# Altium footprint library AUVic_PCB_Library_Regulators.PcbLib: 153 footprints (part 8 of 10)
Each footprint in its own frame and in the unit in brackets; x right, y up, seen from the top. Pads: shape width x height; smd on the part's side, far side on the other; paste and mask are expansions set on the pad; w line width, h text height; cw(c..) or ccw(c..) is an arc to the next point about the centre after c.
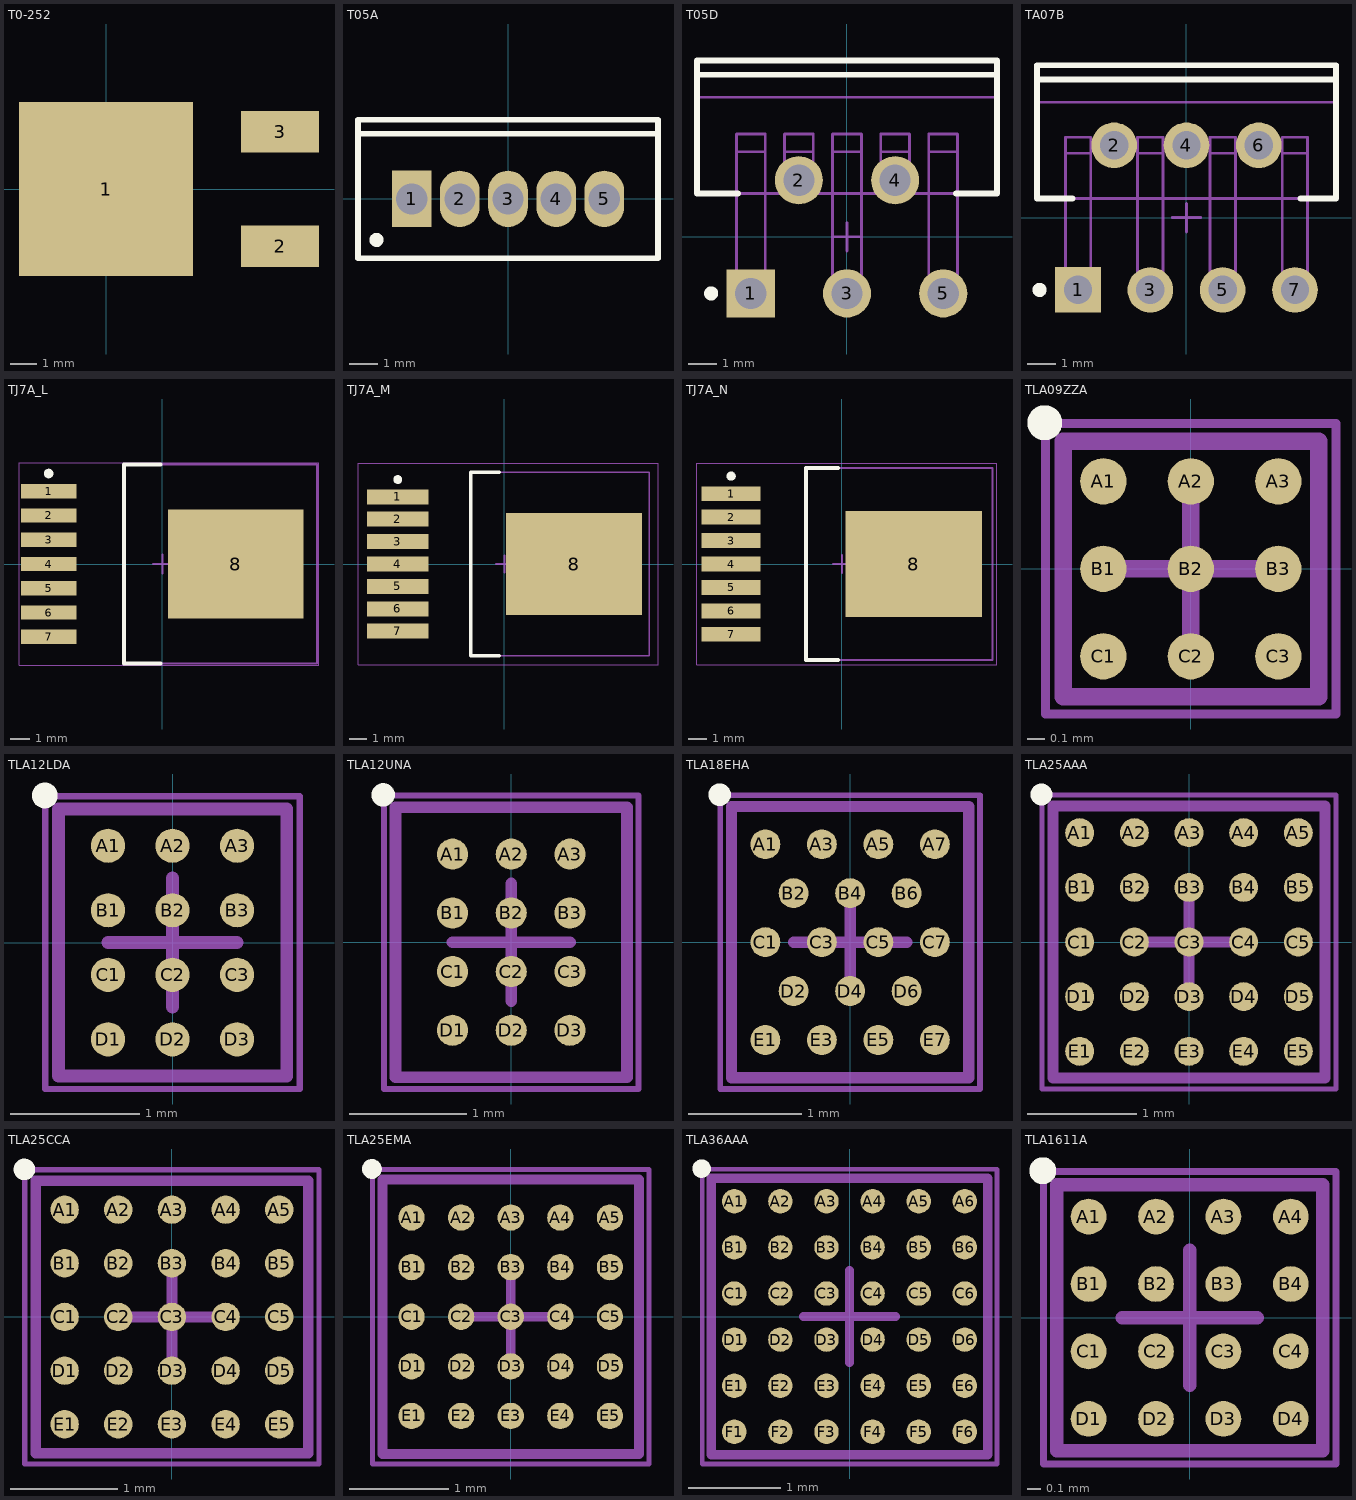
[diagram p7: the footprints below, top view; thin cyan lines are the x and y axes]

## T0-252 [mm]
pads (3):
  rect 6.7x6.7 smd: 1(0,0)
  rect 3x1.6 smd: 2(6.7,-2.2) 3(6.7,2.2)
3D body "User Library-DPAK_TO-252AA.step": height 2.37, standoff -0.03, extent -2.702,-3.467 7.398,3.267

## T05A [mm] "TO, Thru-Hole, Vertical, Heatsink Mounted; 5 In-Line Leads; Pitch 1.70 mm"
height 19.6
pads (5):
  rect 1.4x2 hole 1.1: 1(-3.4,0)
  oval 1.4x2 hole 1.1: 2(-1.7,0) 3(0,0) 4(1.7,0) 5(3.4,0)
Top Overlay:
  circle w0.25: c-4.65,-1.45 r0.125
  lines w0.2: -5.3,2.3 5.3,2.3 ; -5.3,-2.1 5.3,-2.1 5.3,2.8 -5.3,2.8 -5.3,-2.1
Body Top:
  lines w0.1: -5.3,2.3 5.3,2.3 ; -5.3,-2.1 -5.3,2.8 5.3,2.8 5.3,-2.1 -5.3,-2.1 ; -3.91,-0.28 -3.91,0.28 -2.89,0.28 -2.89,-0.28 -3.91,-0.28 ; -2.21,-0.28 -2.21,0.28 -1.19,0.28 -1.19,-0.28 -2.21,-0.28 ; -0.51,-0.28 -0.51,0.28 0.51,0.28 0.51,-0.28 -0.51,-0.28 ; 1.19,-0.28 1.19,0.28 2.21,0.28 2.21,-0.28 1.19,-0.28 ; 2.89,-0.28 2.89,0.28 3.91,0.28 3.91,-0.28 2.89,-0.28
Courtyard Top:
  lines w0.1: -0.5,0 0.5,0 ; 0,-0.5 0,0.5
3D body: height 13, standoff 4.1, extent -5.35,-2.15 5.35,2.85
3D body: height 19.6, standoff 13, extent -5.299,2.301 5.299,2.799
3D body: height 4.1, standoff 0, extent -3.909,-0.279 -2.891,0.279
3D body: height 4.1, standoff 0, extent -2.209,-0.279 -1.191,0.279
3D body: height 4.1, standoff 0, extent 1.191,-0.279 2.209,0.279
3D body: height 4.1, standoff 0, extent 2.891,-0.279 3.909,0.279
3D body: height 4.1, standoff 0, extent -0.509,-0.279 0.509,0.279

## T05D [mm] "TO, Thru-Hole, Vertical, Heatsink Mounted; 5 Bent Staggered Leads; Pitch 1.7 mm"
height 21.1
pads (5):
  rect 1.7x1.7 hole 1.1: 1(-3.4,-2)
  round 1.7 hole 1.1: 2(-1.7,2) 3(0,-2) 4(1.7,2) 5(3.4,-2)
Top Overlay:
  circle w0.25: c-4.8,-2 r0.125
  lines w0.2: -5.3,5.73 5.3,5.73 ; -3.854,1.53 -5.3,1.53 -5.3,6.23 5.3,6.23 5.3,1.53 3.854,1.53
Body Top:
  lines w0.1: -5.3,4.93 5.3,4.93 ; -3.91,-1.685 -3.91,3.005 ; -3.91,-1.685 -2.89,-1.685 ; -3.91,-1.685 -3.91,-2.315 -2.89,-2.315 -2.89,-1.685 ; -3.91,3.005 -3.91,3.635 -2.89,3.635 -2.89,3.005 ; -3.91,3.005 -2.89,3.005 ; -2.89,-1.685 -2.89,3.005 ; -2.21,2.315 -2.21,3.005 ; -2.21,2.315 -1.19,2.315 ; -2.21,2.315 -2.21,1.685 -1.19,1.685 -1.19,2.315 ; -2.21,3.005 -2.21,3.635 -1.19,3.635 -1.19,3.005 ; -2.21,3.005 -1.19,3.005 ; -1.19,2.315 -1.19,3.005 ; -0.51,-1.685 -0.51,-2.315 0.51,-2.315 0.51,-1.685 ; -0.51,-1.685 0.51,-1.685 ; -0.51,-1.685 -0.51,3.005 ; -0.51,3.005 0.51,3.005 ; -0.51,3.005 -0.51,3.635 0.51,3.635 0.51,3.005 ; 0.51,-1.685 0.51,3.005 ; 1.19,2.315 1.19,3.005 ; 1.19,2.315 2.21,2.315 ; 1.19,2.315 1.19,1.685 2.21,1.685 2.21,2.315 ; 1.19,3.005 1.19,3.635 2.21,3.635 2.21,3.005 ; 1.19,3.005 2.21,3.005 ; 2.21,2.315 2.21,3.005 ; 2.89,-1.685 3.91,-1.685 ; 2.89,-1.685 2.89,-2.315 3.91,-2.315 3.91,-1.685 ; 2.89,-1.685 2.89,3.005 ; 2.89,3.005 2.89,3.635 3.91,3.635 3.91,3.005 ; 2.89,3.005 3.91,3.005 ; 3.91,-1.685 3.91,3.005 ; -5.3,1.53 5.3,1.53 5.3,6.23 -5.3,6.23 -5.3,1.53
Courtyard Top:
  lines w0.1: -0.5,0 0.5,0 ; 0,-0.5 0,0.5
3D body: height 21.1, standoff 14.5, extent -5.299,4.931 5.299,6.229
3D body: height 14.5, standoff 5.6, extent -5.35,1.48 5.35,6.28
3D body: height 5.6, standoff 1.95, extent -2.209,3.006 -1.191,3.634
3D body: height 5.6, standoff 1.95, extent -0.509,3.006 0.509,3.634
3D body: height 5.6, standoff 1.95, extent 1.191,3.006 2.209,3.634
3D body: height 5.6, standoff 1.95, extent 2.891,3.006 3.909,3.634
3D body: height 0.93, standoff 0, extent 1.191,1.686 2.209,2.314
3D body: height 0.93, standoff 0, extent -2.209,1.686 -1.191,2.314
3D body: height 2.26, standoff 0.63, extent -2.209,2.316 -1.191,3.004
3D body: height 2.26, standoff 0.63, extent 1.191,2.316 2.209,3.004
3D body: height 2.26, standoff 1.42, extent 2.891,1.531 3.909,3.004
3D body: height 2.26, standoff 1.42, extent -3.909,1.531 -2.891,3.004
3D body: height 2.26, standoff 1.42, extent -0.509,1.531 0.509,3.004
3D body: height 0.93, standoff 0, extent -3.909,-2.314 -2.891,-1.686
3D body: height 0.93, standoff 0, extent -0.509,-2.314 0.509,-1.686
3D body: height 0.93, standoff 0, extent 2.891,-2.314 3.909,-1.686
3D body: height 1.72, standoff 0.63, extent -3.909,-1.684 -2.891,1.529
3D body: height 1.72, standoff 0.63, extent -0.509,-1.684 0.509,1.529
3D body: height 1.72, standoff 0.63, extent 2.891,-1.684 3.909,1.529
3D body: height 5.6, standoff 1.95, extent -3.909,3.006 -2.891,3.634

## TA07B [mm] "TO, Thru-Hole, Vertical, Heatsink Mounted; 7 Bent Staggered Leads; Pitch 1.27 mm"
height 20.9
pads (7):
  rect 1.6x1.6 hole 1: 1(-3.81,-2.54)
  round 1.6 hole 1: 2(-2.54,2.54) 3(-1.27,-2.54) 4(0,2.54) 5(1.27,-2.54) 6(2.54,2.54) 7(3.81,-2.54)
Top Overlay:
  circle w0.25: c-5.16,-2.54 r0.125
  lines w0.2: -5.25,4.85 5.25,4.85 ; -4,0.67 -5.25,0.67 -5.25,5.35 5.25,5.35 5.25,0.67 4,0.67
Body Top:
  lines w0.1: -5.25,4.05 5.25,4.05 ; -4.255,-2.26 -4.255,-2.82 -3.365,-2.82 -3.365,-2.26 ; -4.255,-2.26 -3.365,-2.26 ; -4.255,-2.26 -4.255,2.26 ; -4.255,2.26 -3.365,2.26 ; -4.255,2.26 -4.255,2.82 -3.365,2.82 -3.365,2.26 ; -3.365,-2.26 -3.365,2.26 ; -1.715,-2.26 -1.715,-2.82 -0.825,-2.82 -0.825,-2.26 ; -1.715,-2.26 -0.825,-2.26 ; -1.715,-2.26 -1.715,2.26 ; -1.715,2.26 -0.825,2.26 ; -1.715,2.26 -1.715,2.82 -0.825,2.82 -0.825,2.26 ; -0.825,-2.26 -0.825,2.26 ; 0.825,-2.26 0.825,-2.82 1.715,-2.82 1.715,-2.26 ; 0.825,-2.26 1.715,-2.26 ; 0.825,-2.26 0.825,2.26 ; 0.825,2.26 1.715,2.26 ; 0.825,2.26 0.825,2.82 1.715,2.82 1.715,2.26 ; 1.715,-2.26 1.715,2.26 ; 3.365,-2.26 3.365,2.26 ; 3.365,-2.26 3.365,-2.82 4.255,-2.82 4.255,-2.26 ; 3.365,-2.26 4.255,-2.26 ; 3.365,2.26 4.255,2.26 ; 3.365,2.26 3.365,2.82 4.255,2.82 4.255,2.26 ; 4.255,-2.26 4.255,2.26 ; -5.25,0.67 5.25,0.67 5.25,5.35 -5.25,5.35 -5.25,0.67 ; -2.985,2.26 -2.095,2.26 -2.095,2.82 -2.985,2.82 -2.985,2.26 ; -0.445,2.26 0.445,2.26 0.445,2.82 -0.445,2.82 -0.445,2.26 ; 2.095,2.26 2.985,2.26 2.985,2.82 2.095,2.82 2.095,2.26
Courtyard Top:
  lines w0.1: -0.5,0 0.5,0 ; 0,-0.5 0,0.5
3D body: height 20.9, standoff 14.35, extent -5.249,4.051 5.249,5.349
3D body: height 5.4, standoff 3.3, extent 0.826,2.261 1.714,2.819
3D body: height 5.4, standoff 3.3, extent 3.366,2.261 4.254,2.819
3D body: height 5.4, standoff 0, extent 2.096,2.261 2.984,2.819
3D body: height 5.4, standoff 0, extent -0.444,2.261 0.444,2.819
3D body: height 5.4, standoff 3.3, extent -4.254,2.261 -3.366,2.819
3D body: height 5.4, standoff 0, extent -2.984,2.261 -2.096,2.819
3D body: height 5.4, standoff 3.3, extent -1.714,2.261 -0.826,2.819
3D body: height 3.69, standoff 2.15, extent -4.254,0.671 -3.366,2.259
3D body: height 3.69, standoff 2.15, extent -1.714,0.671 -0.826,2.259
3D body: height 3.69, standoff 2.15, extent 0.826,0.671 1.714,2.259
3D body: height 3.69, standoff 2.15, extent 3.366,0.671 4.254,2.259
3D body: height 2.45, standoff 0.45, extent 3.366,-2.259 4.254,0.669
3D body: height 2.45, standoff 0.45, extent 0.826,-2.259 1.714,0.669
3D body: height 2.45, standoff 0.45, extent -4.254,-2.259 -3.366,0.669
3D body: height 2.45, standoff 0.45, extent -1.714,-2.259 -0.826,0.669
3D body: height 0.7, standoff 0, extent 0.826,-2.819 1.714,-2.261
3D body: height 0.7, standoff 0, extent -4.254,-2.819 -3.366,-2.261
3D body: height 0.7, standoff 0, extent -1.714,-2.819 -0.826,-2.261
3D body: height 0.7, standoff 0, extent 3.366,-2.819 4.254,-2.261
3D body: height 14.35, standoff 5.4, extent -5.3,0.62 5.3,5.4

## TJ7A_L [mm] "D2-PAK, 8-Leads, Body 9.9x10.2mm, Pitch 1.27mm, Lead Span 14mm, IPC High Density"
height 2.1
pads (8):
  rect 2.9x0.75 smd: 1(-5.95,3.81) 2(-5.95,2.54) 3(-5.95,1.27) 4(-5.95,0) 5(-5.95,-1.27) 6(-5.95,-2.54) 7(-5.95,-3.81)
  rect 7.1x5.7 smd: 8(3.85,0)
Top Overlay:
  circle w0.25: c-5.95,4.735 r0.125
  lines w0.2: -0.1,-5.2 -2,-5.2 -2,5.2 -0.1,5.2
Body Top:
  lines w0.1: -2,-5.2 8.1,-5.2 8.1,5.2 -2,5.2 -2,-5.2
Courtyard Top:
  lines w0.05: -7.5,-5.3 8.2,-5.3 8.2,5.3 -7.5,5.3 -7.5,-5.3
  lines w0.1: -0.5,0 0.5,0 ; 0,-0.5 0,0.5
3D body: height 2.1, standoff 0, extent -2,-5.2 8.1,5.2

## TJ7A_M [mm] "D2-PAK, 8-Leads, Body 9.9x10.2mm, Pitch 1.27mm, Lead Span 14mm, IPC Low Density"
height 2.1
pads (8):
  rect 3.5x0.85 smd: 1(-6.05,3.81) 2(-6.05,2.54) 3(-6.05,1.27) 4(-6.05,0) 5(-6.05,-1.27) 6(-6.05,-2.54) 7(-6.05,-3.81)
  rect 7.7x5.8 smd: 8(3.95,0)
Top Overlay:
  circle w0.25: c-6.05,4.785 r0.125
  lines w0.2: -0.3,-5.2 -1.9,-5.2 -1.9,5.2 -0.3,5.2
Body Top:
  lines w0.1: -1.9,-5.2 8.2,-5.2 8.2,5.2 -1.9,5.2 -1.9,-5.2
Courtyard Top:
  lines w0.05: -8.3,-5.7 8.7,-5.7 8.7,5.7 -8.3,5.7 -8.3,-5.7
  lines w0.1: -0.5,0 0.5,0 ; 0,-0.5 0,0.5
3D body: height 2.1, standoff 0, extent -1.9,-5.2 8.2,5.2

## TJ7A_N [mm] "D2-PAK, 8-Leads, Body 9.9x10.2mm, Pitch 1.27mm, Lead Span 14mm, IPC Medium Density"
height 2.1
pads (8):
  rect 3.2x0.8 smd: 1(-6,3.81) 2(-6,2.54) 3(-6,1.27) 4(-6,0) 5(-6,-1.27) 6(-6,-2.54) 7(-6,-3.81)
  rect 7.4x5.75 smd: 8(3.9,0)
Top Overlay:
  circle w0.25: c-6,4.76 r0.125
  lines w0.2: -0.2,-5.2 -1.95,-5.2 -1.95,5.2 -0.2,5.2
Body Top:
  lines w0.1: -1.95,-5.2 8.15,-5.2 8.15,5.2 -1.95,5.2 -1.95,-5.2
Courtyard Top:
  lines w0.05: -7.85,-5.45 8.4,-5.45 8.4,5.45 -7.85,5.45 -7.85,-5.45
  lines w0.1: -0.5,0 0.5,0 ; 0,-0.5 0,0.5
3D body: height 2.1, standoff 0, extent -1.95,-5.2 8.15,5.2

## TLA09ZZA [mm] "Micro SMD, 9-Leads, Body 1.47x1.47mm, Pitch 0.5mm, NSC Recommended"
height 0.68
pads (9):
  round 0.265 smd paste-0.132 mask+0.05: A1(-0.5,0.5) A2(0,0.5) A3(0.5,0.5) B1(-0.5,0) B2(0,0) B3(0.5,0) C1(-0.5,-0.5) C2(0,-0.5) C3(0.5,-0.5)
Top Overlay:
  circle w0.1: c-0.835,0.835 r0.05
Top Paste:
  circle w0.05: c0.425,-0.425 r0.025
  circle w0.05: c0.575,-0.575 r0.025
  circle w0.05: c0.575,-0.425 r0.025
  circle w0.05: c0.425,-0.575 r0.025
  circle w0.05: c-0.075,-0.425 r0.025
  circle w0.05: c0.075,-0.575 r0.025
  circle w0.05: c0.075,-0.425 r0.025
  circle w0.05: c-0.075,-0.575 r0.025
  circle w0.05: c-0.575,-0.425 r0.025
  circle w0.05: c-0.425,-0.575 r0.025
  circle w0.05: c-0.425,-0.425 r0.025
  circle w0.05: c-0.575,-0.575 r0.025
  circle w0.05: c0.425,0.075 r0.025
  circle w0.05: c0.575,-0.075 r0.025
  circle w0.05: c0.575,0.075 r0.025
  circle w0.05: c0.425,-0.075 r0.025
  circle w0.05: c-0.075,0.075 r0.025
  circle w0.05: c0.075,-0.075 r0.025
  circle w0.05: c0.075,0.075 r0.025
  circle w0.05: c-0.075,-0.075 r0.025
  circle w0.05: c-0.575,0.075 r0.025
  circle w0.05: c-0.425,-0.075 r0.025
  circle w0.05: c-0.425,0.075 r0.025
  circle w0.05: c-0.575,-0.075 r0.025
  circle w0.05: c0.425,0.575 r0.025
  circle w0.05: c0.575,0.425 r0.025
  circle w0.05: c0.575,0.575 r0.025
  circle w0.05: c0.425,0.425 r0.025
  circle w0.05: c-0.075,0.575 r0.025
  circle w0.05: c0.075,0.425 r0.025
  circle w0.05: c0.075,0.575 r0.025
  circle w0.05: c-0.075,0.425 r0.025
  circle w0.05: c-0.575,0.575 r0.025
  circle w0.05: c-0.425,0.425 r0.025
  circle w0.05: c-0.425,0.575 r0.025
  circle w0.05: c-0.575,0.425 r0.025
  region: 0.575,-0.575 0.425,-0.575 0.425,-0.625 0.575,-0.625
  region: 0.575,-0.425 0.575,-0.575 0.625,-0.575 0.625,-0.425
  rectangle: 0.425,-0.425 0.575,-0.375
  region: 0.425,-0.575 0.425,-0.425 0.375,-0.425 0.375,-0.575
  region: 0.425,-0.425 0.425,-0.575 0.575,-0.575 0.575,-0.425
  region: 0.075,-0.575 -0.075,-0.575 -0.075,-0.625 0.075,-0.625
  region: 0.075,-0.425 0.075,-0.575 0.125,-0.575 0.125,-0.425
  rectangle: -0.075,-0.425 0.075,-0.375
  region: -0.075,-0.575 -0.075,-0.425 -0.125,-0.425 -0.125,-0.575
  region: -0.075,-0.425 -0.075,-0.575 0.075,-0.575 0.075,-0.425
  region: -0.425,-0.575 -0.575,-0.575 -0.575,-0.625 -0.425,-0.625
  region: -0.425,-0.425 -0.425,-0.575 -0.375,-0.575 -0.375,-0.425
  rectangle: -0.575,-0.425 -0.425,-0.375
  region: -0.575,-0.575 -0.575,-0.425 -0.625,-0.425 -0.625,-0.575
  region: -0.575,-0.425 -0.575,-0.575 -0.425,-0.575 -0.425,-0.425
  region: 0.575,-0.075 0.425,-0.075 0.425,-0.125 0.575,-0.125
  region: 0.575,0.075 0.575,-0.075 0.625,-0.075 0.625,0.075
  rectangle: 0.425,0.075 0.575,0.125
  region: 0.425,-0.075 0.425,0.075 0.375,0.075 0.375,-0.075
  region: 0.425,0.075 0.425,-0.075 0.575,-0.075 0.575,0.075
  region: 0.075,-0.075 -0.075,-0.075 -0.075,-0.125 0.075,-0.125
  region: 0.075,0.075 0.075,-0.075 0.125,-0.075 0.125,0.075
  rectangle: -0.075,0.075 0.075,0.125
  region: -0.075,-0.075 -0.075,0.075 -0.125,0.075 -0.125,-0.075
  region: -0.075,0.075 -0.075,-0.075 0.075,-0.075 0.075,0.075
  region: -0.425,-0.075 -0.575,-0.075 -0.575,-0.125 -0.425,-0.125
  region: -0.425,0.075 -0.425,-0.075 -0.375,-0.075 -0.375,0.075
  rectangle: -0.575,0.075 -0.425,0.125
  region: -0.575,-0.075 -0.575,0.075 -0.625,0.075 -0.625,-0.075
  region: -0.575,0.075 -0.575,-0.075 -0.425,-0.075 -0.425,0.075
  region: 0.575,0.425 0.425,0.425 0.425,0.375 0.575,0.375
  region: 0.575,0.575 0.575,0.425 0.625,0.425 0.625,0.575
  rectangle: 0.425,0.575 0.575,0.625
  region: 0.425,0.425 0.425,0.575 0.375,0.575 0.375,0.425
  region: 0.425,0.575 0.425,0.425 0.575,0.425 0.575,0.575
  region: 0.075,0.425 -0.075,0.425 -0.075,0.375 0.075,0.375
  region: 0.075,0.575 0.075,0.425 0.125,0.425 0.125,0.575
  rectangle: -0.075,0.575 0.075,0.625
  region: -0.075,0.425 -0.075,0.575 -0.125,0.575 -0.125,0.425
  region: -0.075,0.575 -0.075,0.425 0.075,0.425 0.075,0.575
  region: -0.425,0.425 -0.575,0.425 -0.575,0.375 -0.425,0.375
  region: -0.425,0.575 -0.425,0.425 -0.375,0.425 -0.375,0.575
  rectangle: -0.575,0.575 -0.425,0.625
  region: -0.575,0.425 -0.575,0.575 -0.625,0.575 -0.625,0.425
  region: -0.575,0.575 -0.575,0.425 -0.425,0.425 -0.425,0.575
Body Top:
  lines w0.1: -0.73,-0.73 0.73,-0.73 0.73,0.73 -0.73,0.73 -0.73,-0.73
Courtyard Top:
  lines w0.05: -0.83,-0.83 0.83,-0.83 0.83,0.83 -0.83,0.83 -0.83,-0.83
  lines w0.1: -0.5,0 0.5,0 ; 0,-0.5 0,0.5
3D body: height 0.68, standoff 0, extent -0.73,-0.73 0.73,0.73

## TLA12LDA [mm] "Micro SMD, 12-Leads, Body 2.07x1.77mm, Pitch 0.5mm, NSC Recommended"
height 0.68
pads (12):
  round 0.265 smd paste-0.132 mask+0.05: A1(-0.5,0.75) A2(0,0.75) A3(0.5,0.75) B1(-0.5,0.25) B2(0,0.25) B3(0.5,0.25) C1(-0.5,-0.25) C2(0,-0.25) C3(0.5,-0.25) D1(-0.5,-0.75) D2(0,-0.75) D3(0.5,-0.75)
Top Overlay:
  circle w0.1: c-0.99,1.14 r0.05
Top Paste:
  circle w0.05: c0.425,-0.675 r0.025
  circle w0.05: c0.575,-0.825 r0.025
  circle w0.05: c0.575,-0.675 r0.025
  circle w0.05: c0.425,-0.825 r0.025
  circle w0.05: c-0.075,-0.675 r0.025
  circle w0.05: c0.075,-0.825 r0.025
  circle w0.05: c0.075,-0.675 r0.025
  circle w0.05: c-0.075,-0.825 r0.025
  circle w0.05: c-0.575,-0.675 r0.025
  circle w0.05: c-0.425,-0.825 r0.025
  circle w0.05: c-0.425,-0.675 r0.025
  circle w0.05: c-0.575,-0.825 r0.025
  circle w0.05: c0.425,-0.175 r0.025
  circle w0.05: c0.575,-0.325 r0.025
  circle w0.05: c0.575,-0.175 r0.025
  circle w0.05: c0.425,-0.325 r0.025
  circle w0.05: c-0.075,-0.175 r0.025
  circle w0.05: c0.075,-0.325 r0.025
  circle w0.05: c0.075,-0.175 r0.025
  circle w0.05: c-0.075,-0.325 r0.025
  circle w0.05: c-0.575,-0.175 r0.025
  circle w0.05: c-0.425,-0.325 r0.025
  circle w0.05: c-0.425,-0.175 r0.025
  circle w0.05: c-0.575,-0.325 r0.025
  circle w0.05: c0.425,0.325 r0.025
  circle w0.05: c0.575,0.175 r0.025
  circle w0.05: c0.575,0.325 r0.025
  circle w0.05: c0.425,0.175 r0.025
  circle w0.05: c-0.075,0.325 r0.025
  circle w0.05: c0.075,0.175 r0.025
  circle w0.05: c0.075,0.325 r0.025
  circle w0.05: c-0.075,0.175 r0.025
  circle w0.05: c-0.575,0.325 r0.025
  circle w0.05: c-0.425,0.175 r0.025
  circle w0.05: c-0.425,0.325 r0.025
  circle w0.05: c-0.575,0.175 r0.025
  circle w0.05: c0.425,0.825 r0.025
  circle w0.05: c0.575,0.675 r0.025
  circle w0.05: c0.575,0.825 r0.025
  circle w0.05: c0.425,0.675 r0.025
  circle w0.05: c-0.075,0.825 r0.025
  circle w0.05: c0.075,0.675 r0.025
  circle w0.05: c0.075,0.825 r0.025
  circle w0.05: c-0.075,0.675 r0.025
  circle w0.05: c-0.575,0.825 r0.025
  circle w0.05: c-0.425,0.675 r0.025
  circle w0.05: c-0.425,0.825 r0.025
  circle w0.05: c-0.575,0.675 r0.025
  region: 0.575,-0.825 0.425,-0.825 0.425,-0.875 0.575,-0.875
  region: 0.575,-0.675 0.575,-0.825 0.625,-0.825 0.625,-0.675
  rectangle: 0.425,-0.675 0.575,-0.625
  region: 0.425,-0.825 0.425,-0.675 0.375,-0.675 0.375,-0.825
  region: 0.425,-0.675 0.425,-0.825 0.575,-0.825 0.575,-0.675
  region: 0.075,-0.825 -0.075,-0.825 -0.075,-0.875 0.075,-0.875
  region: 0.075,-0.675 0.075,-0.825 0.125,-0.825 0.125,-0.675
  rectangle: -0.075,-0.675 0.075,-0.625
  region: -0.075,-0.825 -0.075,-0.675 -0.125,-0.675 -0.125,-0.825
  region: -0.075,-0.675 -0.075,-0.825 0.075,-0.825 0.075,-0.675
  region: -0.425,-0.825 -0.575,-0.825 -0.575,-0.875 -0.425,-0.875
  region: -0.425,-0.675 -0.425,-0.825 -0.375,-0.825 -0.375,-0.675
  rectangle: -0.575,-0.675 -0.425,-0.625
  region: -0.575,-0.825 -0.575,-0.675 -0.625,-0.675 -0.625,-0.825
  region: -0.575,-0.675 -0.575,-0.825 -0.425,-0.825 -0.425,-0.675
  region: 0.575,-0.325 0.425,-0.325 0.425,-0.375 0.575,-0.375
  region: 0.575,-0.175 0.575,-0.325 0.625,-0.325 0.625,-0.175
  rectangle: 0.425,-0.175 0.575,-0.125
  region: 0.425,-0.325 0.425,-0.175 0.375,-0.175 0.375,-0.325
  region: 0.425,-0.175 0.425,-0.325 0.575,-0.325 0.575,-0.175
  region: 0.075,-0.325 -0.075,-0.325 -0.075,-0.375 0.075,-0.375
  region: 0.075,-0.175 0.075,-0.325 0.125,-0.325 0.125,-0.175
  rectangle: -0.075,-0.175 0.075,-0.125
  region: -0.075,-0.325 -0.075,-0.175 -0.125,-0.175 -0.125,-0.325
  region: -0.075,-0.175 -0.075,-0.325 0.075,-0.325 0.075,-0.175
  region: -0.425,-0.325 -0.575,-0.325 -0.575,-0.375 -0.425,-0.375
  region: -0.425,-0.175 -0.425,-0.325 -0.375,-0.325 -0.375,-0.175
  rectangle: -0.575,-0.175 -0.425,-0.125
  region: -0.575,-0.325 -0.575,-0.175 -0.625,-0.175 -0.625,-0.325
  region: -0.575,-0.175 -0.575,-0.325 -0.425,-0.325 -0.425,-0.175
  region: 0.575,0.175 0.425,0.175 0.425,0.125 0.575,0.125
  region: 0.575,0.325 0.575,0.175 0.625,0.175 0.625,0.325
  rectangle: 0.425,0.325 0.575,0.375
  region: 0.425,0.175 0.425,0.325 0.375,0.325 0.375,0.175
  region: 0.425,0.325 0.425,0.175 0.575,0.175 0.575,0.325
  region: 0.075,0.175 -0.075,0.175 -0.075,0.125 0.075,0.125
  region: 0.075,0.325 0.075,0.175 0.125,0.175 0.125,0.325
  rectangle: -0.075,0.325 0.075,0.375
  region: -0.075,0.175 -0.075,0.325 -0.125,0.325 -0.125,0.175
  region: -0.075,0.325 -0.075,0.175 0.075,0.175 0.075,0.325
  region: -0.425,0.175 -0.575,0.175 -0.575,0.125 -0.425,0.125
  region: -0.425,0.325 -0.425,0.175 -0.375,0.175 -0.375,0.325
  rectangle: -0.575,0.325 -0.425,0.375
  region: -0.575,0.175 -0.575,0.325 -0.625,0.325 -0.625,0.175
  region: -0.575,0.325 -0.575,0.175 -0.425,0.175 -0.425,0.325
  region: 0.575,0.675 0.425,0.675 0.425,0.625 0.575,0.625
  region: 0.575,0.825 0.575,0.675 0.625,0.675 0.625,0.825
  rectangle: 0.425,0.825 0.575,0.875
  region: 0.425,0.675 0.425,0.825 0.375,0.825 0.375,0.675
  region: 0.425,0.825 0.425,0.675 0.575,0.675 0.575,0.825
  region: 0.075,0.675 -0.075,0.675 -0.075,0.625 0.075,0.625
  region: 0.075,0.825 0.075,0.675 0.125,0.675 0.125,0.825
  rectangle: -0.075,0.825 0.075,0.875
  region: -0.075,0.675 -0.075,0.825 -0.125,0.825 -0.125,0.675
  region: -0.075,0.825 -0.075,0.675 0.075,0.675 0.075,0.825
  region: -0.425,0.675 -0.575,0.675 -0.575,0.625 -0.425,0.625
  region: -0.425,0.825 -0.425,0.675 -0.375,0.675 -0.375,0.825
  rectangle: -0.575,0.825 -0.425,0.875
  region: -0.575,0.675 -0.575,0.825 -0.625,0.825 -0.625,0.675
  region: -0.575,0.825 -0.575,0.675 -0.425,0.675 -0.425,0.825
Body Top:
  lines w0.1: -0.885,-1.035 0.885,-1.035 0.885,1.035 -0.885,1.035 -0.885,-1.035
Courtyard Top:
  lines w0.05: -0.985,-1.135 0.985,-1.135 0.985,1.135 -0.985,1.135 -0.985,-1.135
  lines w0.1: -0.5,0 0.5,0 ; 0,-0.5 0,0.5
3D body: height 0.68, standoff 0, extent -0.885,-1.035 0.885,1.035

## TLA12UNA [mm] "Micro SMD, 12-Leads, Body 2.3x1.97mm, Pitch 0.5mm, NSC Recommended"
height 0.68
pads (12):
  round 0.265 smd paste-0.132 mask+0.05: A1(-0.5,0.75) A2(0,0.75) A3(0.5,0.75) B1(-0.5,0.25) B2(0,0.25) B3(0.5,0.25) C1(-0.5,-0.25) C2(0,-0.25) C3(0.5,-0.25) D1(-0.5,-0.75) D2(0,-0.75) D3(0.5,-0.75)
Top Overlay:
  circle w0.1: c-1.09,1.255 r0.05
Top Paste:
  circle w0.05: c0.425,-0.675 r0.025
  circle w0.05: c0.575,-0.825 r0.025
  circle w0.05: c0.575,-0.675 r0.025
  circle w0.05: c0.425,-0.825 r0.025
  circle w0.05: c-0.075,-0.675 r0.025
  circle w0.05: c0.075,-0.825 r0.025
  circle w0.05: c0.075,-0.675 r0.025
  circle w0.05: c-0.075,-0.825 r0.025
  circle w0.05: c-0.575,-0.675 r0.025
  circle w0.05: c-0.425,-0.825 r0.025
  circle w0.05: c-0.425,-0.675 r0.025
  circle w0.05: c-0.575,-0.825 r0.025
  circle w0.05: c0.425,-0.175 r0.025
  circle w0.05: c0.575,-0.325 r0.025
  circle w0.05: c0.575,-0.175 r0.025
  circle w0.05: c0.425,-0.325 r0.025
  circle w0.05: c-0.075,-0.175 r0.025
  circle w0.05: c0.075,-0.325 r0.025
  circle w0.05: c0.075,-0.175 r0.025
  circle w0.05: c-0.075,-0.325 r0.025
  circle w0.05: c-0.575,-0.175 r0.025
  circle w0.05: c-0.425,-0.325 r0.025
  circle w0.05: c-0.425,-0.175 r0.025
  circle w0.05: c-0.575,-0.325 r0.025
  circle w0.05: c0.425,0.325 r0.025
  circle w0.05: c0.575,0.175 r0.025
  circle w0.05: c0.575,0.325 r0.025
  circle w0.05: c0.425,0.175 r0.025
  circle w0.05: c-0.075,0.325 r0.025
  circle w0.05: c0.075,0.175 r0.025
  circle w0.05: c0.075,0.325 r0.025
  circle w0.05: c-0.075,0.175 r0.025
  circle w0.05: c-0.575,0.325 r0.025
  circle w0.05: c-0.425,0.175 r0.025
  circle w0.05: c-0.425,0.325 r0.025
  circle w0.05: c-0.575,0.175 r0.025
  circle w0.05: c0.425,0.825 r0.025
  circle w0.05: c0.575,0.675 r0.025
  circle w0.05: c0.575,0.825 r0.025
  circle w0.05: c0.425,0.675 r0.025
  circle w0.05: c-0.075,0.825 r0.025
  circle w0.05: c0.075,0.675 r0.025
  circle w0.05: c0.075,0.825 r0.025
  circle w0.05: c-0.075,0.675 r0.025
  circle w0.05: c-0.575,0.825 r0.025
  circle w0.05: c-0.425,0.675 r0.025
  circle w0.05: c-0.425,0.825 r0.025
  circle w0.05: c-0.575,0.675 r0.025
  region: 0.575,-0.825 0.425,-0.825 0.425,-0.875 0.575,-0.875
  region: 0.575,-0.675 0.575,-0.825 0.625,-0.825 0.625,-0.675
  rectangle: 0.425,-0.675 0.575,-0.625
  region: 0.425,-0.825 0.425,-0.675 0.375,-0.675 0.375,-0.825
  region: 0.425,-0.675 0.425,-0.825 0.575,-0.825 0.575,-0.675
  region: 0.075,-0.825 -0.075,-0.825 -0.075,-0.875 0.075,-0.875
  region: 0.075,-0.675 0.075,-0.825 0.125,-0.825 0.125,-0.675
  rectangle: -0.075,-0.675 0.075,-0.625
  region: -0.075,-0.825 -0.075,-0.675 -0.125,-0.675 -0.125,-0.825
  region: -0.075,-0.675 -0.075,-0.825 0.075,-0.825 0.075,-0.675
  region: -0.425,-0.825 -0.575,-0.825 -0.575,-0.875 -0.425,-0.875
  region: -0.425,-0.675 -0.425,-0.825 -0.375,-0.825 -0.375,-0.675
  rectangle: -0.575,-0.675 -0.425,-0.625
  region: -0.575,-0.825 -0.575,-0.675 -0.625,-0.675 -0.625,-0.825
  region: -0.575,-0.675 -0.575,-0.825 -0.425,-0.825 -0.425,-0.675
  region: 0.575,-0.325 0.425,-0.325 0.425,-0.375 0.575,-0.375
  region: 0.575,-0.175 0.575,-0.325 0.625,-0.325 0.625,-0.175
  rectangle: 0.425,-0.175 0.575,-0.125
  region: 0.425,-0.325 0.425,-0.175 0.375,-0.175 0.375,-0.325
  region: 0.425,-0.175 0.425,-0.325 0.575,-0.325 0.575,-0.175
  region: 0.075,-0.325 -0.075,-0.325 -0.075,-0.375 0.075,-0.375
  region: 0.075,-0.175 0.075,-0.325 0.125,-0.325 0.125,-0.175
  rectangle: -0.075,-0.175 0.075,-0.125
  region: -0.075,-0.325 -0.075,-0.175 -0.125,-0.175 -0.125,-0.325
  region: -0.075,-0.175 -0.075,-0.325 0.075,-0.325 0.075,-0.175
  region: -0.425,-0.325 -0.575,-0.325 -0.575,-0.375 -0.425,-0.375
  region: -0.425,-0.175 -0.425,-0.325 -0.375,-0.325 -0.375,-0.175
  rectangle: -0.575,-0.175 -0.425,-0.125
  region: -0.575,-0.325 -0.575,-0.175 -0.625,-0.175 -0.625,-0.325
  region: -0.575,-0.175 -0.575,-0.325 -0.425,-0.325 -0.425,-0.175
  region: 0.575,0.175 0.425,0.175 0.425,0.125 0.575,0.125
  region: 0.575,0.325 0.575,0.175 0.625,0.175 0.625,0.325
  rectangle: 0.425,0.325 0.575,0.375
  region: 0.425,0.175 0.425,0.325 0.375,0.325 0.375,0.175
  region: 0.425,0.325 0.425,0.175 0.575,0.175 0.575,0.325
  region: 0.075,0.175 -0.075,0.175 -0.075,0.125 0.075,0.125
  region: 0.075,0.325 0.075,0.175 0.125,0.175 0.125,0.325
  rectangle: -0.075,0.325 0.075,0.375
  region: -0.075,0.175 -0.075,0.325 -0.125,0.325 -0.125,0.175
  region: -0.075,0.325 -0.075,0.175 0.075,0.175 0.075,0.325
  region: -0.425,0.175 -0.575,0.175 -0.575,0.125 -0.425,0.125
  region: -0.425,0.325 -0.425,0.175 -0.375,0.175 -0.375,0.325
  rectangle: -0.575,0.325 -0.425,0.375
  region: -0.575,0.175 -0.575,0.325 -0.625,0.325 -0.625,0.175
  region: -0.575,0.325 -0.575,0.175 -0.425,0.175 -0.425,0.325
  region: 0.575,0.675 0.425,0.675 0.425,0.625 0.575,0.625
  region: 0.575,0.825 0.575,0.675 0.625,0.675 0.625,0.825
  rectangle: 0.425,0.825 0.575,0.875
  region: 0.425,0.675 0.425,0.825 0.375,0.825 0.375,0.675
  region: 0.425,0.825 0.425,0.675 0.575,0.675 0.575,0.825
  region: 0.075,0.675 -0.075,0.675 -0.075,0.625 0.075,0.625
  region: 0.075,0.825 0.075,0.675 0.125,0.675 0.125,0.825
  rectangle: -0.075,0.825 0.075,0.875
  region: -0.075,0.675 -0.075,0.825 -0.125,0.825 -0.125,0.675
  region: -0.075,0.825 -0.075,0.675 0.075,0.675 0.075,0.825
  region: -0.425,0.675 -0.575,0.675 -0.575,0.625 -0.425,0.625
  region: -0.425,0.825 -0.425,0.675 -0.375,0.675 -0.375,0.825
  rectangle: -0.575,0.825 -0.425,0.875
  region: -0.575,0.675 -0.575,0.825 -0.625,0.825 -0.625,0.675
  region: -0.575,0.825 -0.575,0.675 -0.425,0.675 -0.425,0.825
Body Top:
  lines w0.1: -0.985,-1.15 0.985,-1.15 0.985,1.15 -0.985,1.15 -0.985,-1.15
Courtyard Top:
  lines w0.05: -1.085,-1.25 1.085,-1.25 1.085,1.25 -1.085,1.25 -1.085,-1.25
  lines w0.1: -0.5,0 0.5,0 ; 0,-0.5 0,0.5
3D body: height 0.68, standoff 0, extent -0.985,-1.15 0.985,1.15

## TLA18EHA [mm] "Micro SMD, 18-Leads, Body 2.41x2.1mm, Pitch 0.5mm, NSC Recommended"
height 0.68
pads (18):
  round 0.265 smd paste-0.132 mask+0.05: A1(-0.75,0.866) A3(-0.25,0.866) A5(0.25,0.866) A7(0.75,0.866) B2(-0.5,0.433) B4(0,0.433) B6(0.5,0.433) C1(-0.75,0) C3(-0.25,0) C5(0.25,0) C7(0.75,0) D2(-0.5,-0.433) D4(0,-0.433) D6(0.5,-0.433) E1(-0.75,-0.866) E3(-0.25,-0.866) E5(0.25,-0.866) E7(0.75,-0.866)
Top Overlay:
  circle w0.1: c-1.155,1.305 r0.05
Top Paste:
  drawing of 162 lines, arcs and shapes, not listed
Body Top:
  lines w0.1: -1.05,-1.2 -1.05,1.2 1.05,1.2 1.05,-1.2 -1.05,-1.2
Courtyard Top:
  lines w0.05: -1.15,-1.3 1.15,-1.3 1.15,1.3 -1.15,1.3 -1.15,-1.3
  lines w0.1: -0.5,0 0.5,0 ; 0,-0.5 0,0.5
3D body: height 0.68, standoff 0, extent -1.049,-1.2 1.049,1.199

## TLA25AAA [mm] "Micro SMD, 25-Leads, Body 2.49x2.49mm, Pitch 0.5mm, NSC Recommended"
height 0.68
pads (25):
  round 0.265 smd paste-0.132 mask+0.05: A1(-1,1) A2(-0.5,1) A3(0,1) A4(0.5,1) A5(1,1) B1(-1,0.5) B2(-0.5,0.5) B3(0,0.5) B4(0.5,0.5) B5(1,0.5) C1(-1,0) C2(-0.5,0) C3(0,0) C4(0.5,0) C5(1,0) D1(-1,-0.5) D2(-0.5,-0.5) D3(0,-0.5) D4(0.5,-0.5) D5(1,-0.5) E1(-1,-1) E2(-0.5,-1) E3(0,-1) E4(0.5,-1) E5(1,-1)
Top Overlay:
  circle w0.1: c-1.35,1.35 r0.05
Top Paste:
  drawing of 225 lines, arcs and shapes, not listed
Body Top:
  lines w0.1: -1.245,-1.245 1.245,-1.245 1.245,1.245 -1.245,1.245 -1.245,-1.245
Courtyard Top:
  lines w0.05: -1.345,-1.345 1.345,-1.345 1.345,1.345 -1.345,1.345 -1.345,-1.345
  lines w0.1: -0.5,0 0.5,0 ; 0,-0.5 0,0.5
3D body: height 0.68, standoff 0, extent -1.245,-1.245 1.245,1.245

## TLA25CCA [mm] "Micro SMD, 25-Leads, Body 2.54x2.54mm, Pitch 0.5mm, NSC Recommended"
height 0.68
pads (25):
  round 0.265 smd paste-0.132 mask+0.05: A1(-1,1) A2(-0.5,1) A3(0,1) A4(0.5,1) A5(1,1) B1(-1,0.5) B2(-0.5,0.5) B3(0,0.5) B4(0.5,0.5) B5(1,0.5) C1(-1,0) C2(-0.5,0) C3(0,0) C4(0.5,0) C5(1,0) D1(-1,-0.5) D2(-0.5,-0.5) D3(0,-0.5) D4(0.5,-0.5) D5(1,-0.5) E1(-1,-1) E2(-0.5,-1) E3(0,-1) E4(0.5,-1) E5(1,-1)
Top Overlay:
  circle w0.1: c-1.375,1.375 r0.05
Top Paste:
  drawing of 225 lines, arcs and shapes, not listed
Body Top:
  lines w0.1: -1.27,-1.27 1.27,-1.27 1.27,1.27 -1.27,1.27 -1.27,-1.27
Courtyard Top:
  lines w0.05: -1.37,-1.37 1.37,-1.37 1.37,1.37 -1.37,1.37 -1.37,-1.37
  lines w0.1: -0.5,0 0.5,0 ; 0,-0.5 0,0.5
3D body: height 0.68, standoff 0, extent -1.27,-1.27 1.27,1.27

## TLA25EMA [mm] "Micro SMD, 25-Leads, Body 2.77x2.59mm, Pitch 0.5mm, NSC Recommended"
height 0.68
pads (25):
  round 0.265 smd paste-0.132 mask+0.05: A1(-1,1) A2(-0.5,1) A3(0,1) A4(0.5,1) A5(1,1) B1(-1,0.5) B2(-0.5,0.5) B3(0,0.5) B4(0.5,0.5) B5(1,0.5) C1(-1,0) C2(-0.5,0) C3(0,0) C4(0.5,0) C5(1,0) D1(-1,-0.5) D2(-0.5,-0.5) D3(0,-0.5) D4(0.5,-0.5) D5(1,-0.5) E1(-1,-1) E2(-0.5,-1) E3(0,-1) E4(0.5,-1) E5(1,-1)
Top Overlay:
  circle w0.1: c-1.4,1.49 r0.05
Top Paste:
  drawing of 225 lines, arcs and shapes, not listed
Body Top:
  lines w0.1: -1.295,-1.385 1.295,-1.385 1.295,1.385 -1.295,1.385 -1.295,-1.385
Courtyard Top:
  lines w0.05: -1.395,-1.485 1.395,-1.485 1.395,1.485 -1.395,1.485 -1.395,-1.485
  lines w0.1: -0.5,0 0.5,0 ; 0,-0.5 0,0.5
3D body: height 0.68, standoff 0, extent -1.295,-1.385 1.295,1.385

## TLA36AAA [mm] "Micro SMD, 36-Leads, Body 3x3mm, Pitch 0.5mm, NSC Recommended"
height 0.68
pads (36):
  round 0.265 smd paste-0.132 mask+0.05: A1(-1.25,1.25) A2(-0.75,1.25) A3(-0.25,1.25) A4(0.25,1.25) A5(0.75,1.25) A6(1.25,1.25) B1(-1.25,0.75) B2(-0.75,0.75) B3(-0.25,0.75) B4(0.25,0.75) B5(0.75,0.75) B6(1.25,0.75) C1(-1.25,0.25) C2(-0.75,0.25) C3(-0.25,0.25) C4(0.25,0.25) C5(0.75,0.25) C6(1.25,0.25) D1(-1.25,-0.25) D2(-0.75,-0.25) D3(-0.25,-0.25) D4(0.25,-0.25) D5(0.75,-0.25) D6(1.25,-0.25) E1(-1.25,-0.75) E2(-0.75,-0.75) E3(-0.25,-0.75) E4(0.25,-0.75) E5(0.75,-0.75) E6(1.25,-0.75) F1(-1.25,-1.25) F2(-0.75,-1.25) F3(-0.25,-1.25) F4(0.25,-1.25) F5(0.75,-1.25) F6(1.25,-1.25)
Top Overlay:
  circle w0.1: c-1.605,1.605 r0.05
Top Paste:
  drawing of 324 lines, arcs and shapes, not listed
Body Top:
  lines w0.1: -1.5,-1.5 1.5,-1.5 1.5,1.5 -1.5,1.5 -1.5,-1.5
Courtyard Top:
  lines w0.05: -1.6,-1.6 1.6,-1.6 1.6,1.6 -1.6,1.6 -1.6,-1.6
  lines w0.1: -0.5,0 0.5,0 ; 0,-0.5 0,0.5
3D body: height 0.68, standoff 0, extent -1.5,-1.5 1.5,1.5

## TLA1611A [mm] "Micro SMD, 16-Leads, Body 1.97x1.97mm, Pitch 0.5mm, NSC Recommended"
height 0.68
pads (16):
  round 0.265 smd paste-0.132 mask+0.05: A1(-0.75,0.75) A2(-0.25,0.75) A3(0.25,0.75) A4(0.75,0.75) B1(-0.75,0.25) B2(-0.25,0.25) B3(0.25,0.25) B4(0.75,0.25) C1(-0.75,-0.25) C2(-0.25,-0.25) C3(0.25,-0.25) C4(0.75,-0.25) D1(-0.75,-0.75) D2(-0.25,-0.75) D3(0.25,-0.75) D4(0.75,-0.75)
Top Overlay:
  circle w0.1: c-1.09,1.09 r0.05
Top Paste:
  circle w0.05: c0.675,-0.675 r0.025
  circle w0.05: c0.825,-0.825 r0.025
  circle w0.05: c0.825,-0.675 r0.025
  circle w0.05: c0.675,-0.825 r0.025
  circle w0.05: c0.175,-0.675 r0.025
  circle w0.05: c0.325,-0.825 r0.025
  circle w0.05: c0.325,-0.675 r0.025
  circle w0.05: c0.175,-0.825 r0.025
  circle w0.05: c-0.325,-0.675 r0.025
  circle w0.05: c-0.175,-0.825 r0.025
  circle w0.05: c-0.175,-0.675 r0.025
  circle w0.05: c-0.325,-0.825 r0.025
  circle w0.05: c-0.825,-0.675 r0.025
  circle w0.05: c-0.675,-0.825 r0.025
  circle w0.05: c-0.675,-0.675 r0.025
  circle w0.05: c-0.825,-0.825 r0.025
  circle w0.05: c0.675,-0.175 r0.025
  circle w0.05: c0.825,-0.325 r0.025
  circle w0.05: c0.825,-0.175 r0.025
  circle w0.05: c0.675,-0.325 r0.025
  circle w0.05: c0.175,-0.175 r0.025
  circle w0.05: c0.325,-0.325 r0.025
  circle w0.05: c0.325,-0.175 r0.025
  circle w0.05: c0.175,-0.325 r0.025
  circle w0.05: c-0.325,-0.175 r0.025
  circle w0.05: c-0.175,-0.325 r0.025
  circle w0.05: c-0.175,-0.175 r0.025
  circle w0.05: c-0.325,-0.325 r0.025
  circle w0.05: c-0.825,-0.175 r0.025
  circle w0.05: c-0.675,-0.325 r0.025
  circle w0.05: c-0.675,-0.175 r0.025
  circle w0.05: c-0.825,-0.325 r0.025
  circle w0.05: c0.675,0.325 r0.025
  circle w0.05: c0.825,0.175 r0.025
  circle w0.05: c0.825,0.325 r0.025
  circle w0.05: c0.675,0.175 r0.025
  circle w0.05: c0.175,0.325 r0.025
  circle w0.05: c0.325,0.175 r0.025
  circle w0.05: c0.325,0.325 r0.025
  circle w0.05: c0.175,0.175 r0.025
  circle w0.05: c-0.325,0.325 r0.025
  circle w0.05: c-0.175,0.175 r0.025
  circle w0.05: c-0.175,0.325 r0.025
  circle w0.05: c-0.325,0.175 r0.025
  circle w0.05: c-0.825,0.325 r0.025
  circle w0.05: c-0.675,0.175 r0.025
  circle w0.05: c-0.675,0.325 r0.025
  circle w0.05: c-0.825,0.175 r0.025
  circle w0.05: c0.675,0.825 r0.025
  circle w0.05: c0.825,0.675 r0.025
  circle w0.05: c0.825,0.825 r0.025
  circle w0.05: c0.675,0.675 r0.025
  circle w0.05: c0.175,0.825 r0.025
  circle w0.05: c0.325,0.675 r0.025
  circle w0.05: c0.325,0.825 r0.025
  circle w0.05: c0.175,0.675 r0.025
  circle w0.05: c-0.325,0.825 r0.025
  circle w0.05: c-0.175,0.675 r0.025
  circle w0.05: c-0.175,0.825 r0.025
  circle w0.05: c-0.325,0.675 r0.025
  circle w0.05: c-0.825,0.825 r0.025
  circle w0.05: c-0.675,0.675 r0.025
  circle w0.05: c-0.675,0.825 r0.025
  circle w0.05: c-0.825,0.675 r0.025
  region: 0.825,-0.825 0.675,-0.825 0.675,-0.875 0.825,-0.875
  region: 0.825,-0.675 0.825,-0.825 0.875,-0.825 0.875,-0.675
  rectangle: 0.675,-0.675 0.825,-0.625
  region: 0.675,-0.825 0.675,-0.675 0.625,-0.675 0.625,-0.825
  region: 0.675,-0.675 0.675,-0.825 0.825,-0.825 0.825,-0.675
  region: 0.325,-0.825 0.175,-0.825 0.175,-0.875 0.325,-0.875
  region: 0.325,-0.675 0.325,-0.825 0.375,-0.825 0.375,-0.675
  rectangle: 0.175,-0.675 0.325,-0.625
  region: 0.175,-0.825 0.175,-0.675 0.125,-0.675 0.125,-0.825
  region: 0.175,-0.675 0.175,-0.825 0.325,-0.825 0.325,-0.675
  region: -0.175,-0.825 -0.325,-0.825 -0.325,-0.875 -0.175,-0.875
  region: -0.175,-0.675 -0.175,-0.825 -0.125,-0.825 -0.125,-0.675
  rectangle: -0.325,-0.675 -0.175,-0.625
  region: -0.325,-0.825 -0.325,-0.675 -0.375,-0.675 -0.375,-0.825
  region: -0.325,-0.675 -0.325,-0.825 -0.175,-0.825 -0.175,-0.675
  region: -0.675,-0.825 -0.825,-0.825 -0.825,-0.875 -0.675,-0.875
  region: -0.675,-0.675 -0.675,-0.825 -0.625,-0.825 -0.625,-0.675
  rectangle: -0.825,-0.675 -0.675,-0.625
  region: -0.825,-0.825 -0.825,-0.675 -0.875,-0.675 -0.875,-0.825
  region: -0.825,-0.675 -0.825,-0.825 -0.675,-0.825 -0.675,-0.675
  region: 0.825,-0.325 0.675,-0.325 0.675,-0.375 0.825,-0.375
  region: 0.825,-0.175 0.825,-0.325 0.875,-0.325 0.875,-0.175
  rectangle: 0.675,-0.175 0.825,-0.125
  region: 0.675,-0.325 0.675,-0.175 0.625,-0.175 0.625,-0.325
  region: 0.675,-0.175 0.675,-0.325 0.825,-0.325 0.825,-0.175
  region: 0.325,-0.325 0.175,-0.325 0.175,-0.375 0.325,-0.375
  region: 0.325,-0.175 0.325,-0.325 0.375,-0.325 0.375,-0.175
  rectangle: 0.175,-0.175 0.325,-0.125
  region: 0.175,-0.325 0.175,-0.175 0.125,-0.175 0.125,-0.325
  region: 0.175,-0.175 0.175,-0.325 0.325,-0.325 0.325,-0.175
  region: -0.175,-0.325 -0.325,-0.325 -0.325,-0.375 -0.175,-0.375
  region: -0.175,-0.175 -0.175,-0.325 -0.125,-0.325 -0.125,-0.175
  rectangle: -0.325,-0.175 -0.175,-0.125
  region: -0.325,-0.325 -0.325,-0.175 -0.375,-0.175 -0.375,-0.325
  region: -0.325,-0.175 -0.325,-0.325 -0.175,-0.325 -0.175,-0.175
  region: -0.675,-0.325 -0.825,-0.325 -0.825,-0.375 -0.675,-0.375
  region: -0.675,-0.175 -0.675,-0.325 -0.625,-0.325 -0.625,-0.175
  rectangle: -0.825,-0.175 -0.675,-0.125
  region: -0.825,-0.325 -0.825,-0.175 -0.875,-0.175 -0.875,-0.325
  region: -0.825,-0.175 -0.825,-0.325 -0.675,-0.325 -0.675,-0.175
  region: 0.825,0.175 0.675,0.175 0.675,0.125 0.825,0.125
  region: 0.825,0.325 0.825,0.175 0.875,0.175 0.875,0.325
  rectangle: 0.675,0.325 0.825,0.375
  region: 0.675,0.175 0.675,0.325 0.625,0.325 0.625,0.175
  region: 0.675,0.325 0.675,0.175 0.825,0.175 0.825,0.325
  region: 0.325,0.175 0.175,0.175 0.175,0.125 0.325,0.125
  region: 0.325,0.325 0.325,0.175 0.375,0.175 0.375,0.325
  rectangle: 0.175,0.325 0.325,0.375
  region: 0.175,0.175 0.175,0.325 0.125,0.325 0.125,0.175
  region: 0.175,0.325 0.175,0.175 0.325,0.175 0.325,0.325
  region: -0.175,0.175 -0.325,0.175 -0.325,0.125 -0.175,0.125
  region: -0.175,0.325 -0.175,0.175 -0.125,0.175 -0.125,0.325
  rectangle: -0.325,0.325 -0.175,0.375
  region: -0.325,0.175 -0.325,0.325 -0.375,0.325 -0.375,0.175
  region: -0.325,0.325 -0.325,0.175 -0.175,0.175 -0.175,0.325
  region: -0.675,0.175 -0.825,0.175 -0.825,0.125 -0.675,0.125
  region: -0.675,0.325 -0.675,0.175 -0.625,0.175 -0.625,0.325
  rectangle: -0.825,0.325 -0.675,0.375
  region: -0.825,0.175 -0.825,0.325 -0.875,0.325 -0.875,0.175
  region: -0.825,0.325 -0.825,0.175 -0.675,0.175 -0.675,0.325
  region: 0.825,0.675 0.675,0.675 0.675,0.625 0.825,0.625
  region: 0.825,0.825 0.825,0.675 0.875,0.675 0.875,0.825
  rectangle: 0.675,0.825 0.825,0.875
  region: 0.675,0.675 0.675,0.825 0.625,0.825 0.625,0.675
  region: 0.675,0.825 0.675,0.675 0.825,0.675 0.825,0.825
  region: 0.325,0.675 0.175,0.675 0.175,0.625 0.325,0.625
  region: 0.325,0.825 0.325,0.675 0.375,0.675 0.375,0.825
  rectangle: 0.175,0.825 0.325,0.875
  region: 0.175,0.675 0.175,0.825 0.125,0.825 0.125,0.675
  region: 0.175,0.825 0.175,0.675 0.325,0.675 0.325,0.825
  region: -0.175,0.675 -0.325,0.675 -0.325,0.625 -0.175,0.625
  region: -0.175,0.825 -0.175,0.675 -0.125,0.675 -0.125,0.825
  rectangle: -0.325,0.825 -0.175,0.875
  region: -0.325,0.675 -0.325,0.825 -0.375,0.825 -0.375,0.675
  region: -0.325,0.825 -0.325,0.675 -0.175,0.675 -0.175,0.825
  region: -0.675,0.675 -0.825,0.675 -0.825,0.625 -0.675,0.625
  region: -0.675,0.825 -0.675,0.675 -0.625,0.675 -0.625,0.825
  rectangle: -0.825,0.825 -0.675,0.875
  region: -0.825,0.675 -0.825,0.825 -0.875,0.825 -0.875,0.675
  region: -0.825,0.825 -0.825,0.675 -0.675,0.675 -0.675,0.825
Body Top:
  lines w0.1: -0.985,-0.985 0.985,-0.985 0.985,0.985 -0.985,0.985 -0.985,-0.985
Courtyard Top:
  lines w0.05: -1.085,-1.085 1.085,-1.085 1.085,1.085 -1.085,1.085 -1.085,-1.085
  lines w0.1: -0.5,0 0.5,0 ; 0,-0.5 0,0.5
3D body: height 0.68, standoff 0, extent -0.985,-0.985 0.985,0.985